# Altium schematic symbol library Bitcoiner_EB_Project_V1I1.SchLib: 70 symbols (part 3 of 3)
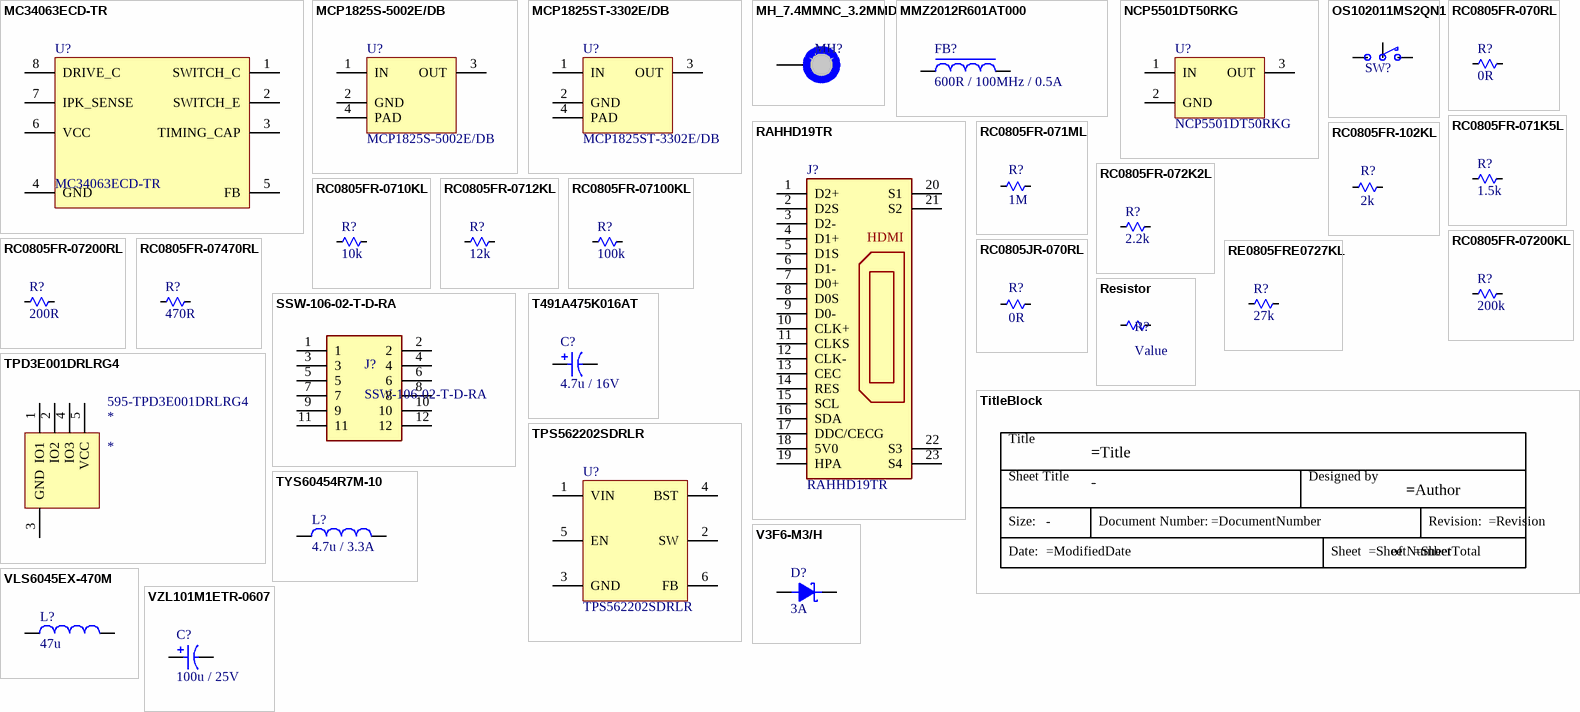
[diagram p3: symbols MC34063ECD-TR to VZL101M1ETR-0607]

## TYS60454R7M-10
designator L?, comment 4.7u / 3.3A
Pwrind, SMT, Shld, Lrated / 6.0X6.0X4.5MM / Uom=ea / Wire Wound Inductive / Fixed Inductor; Manufacturer: Laird Steward; Manufacturer Part Number: TYS60454R7M-10; Tolerance: 20%; Inductance: 4.7uH; Saturation Current: 4.97A; Shielding: Shielded; DC Resistance (DCR): 26mR; Self Resonant Frequency: 24MHz; Test Frequency: 100kHz; Supplier 1: Mouser; RoHS: Yes; Category: Fixed Inductors; Stock 1: 5979; Pricing 1: 1=0.24000, 10=0.22900, 50=0.21200, 100=0.21000, 1000=0.16600, 10000=0.16100 (USD); Mount: Surface Mount; Case/Package: Nonstandard; Min Operating Temperature: -40°C; Max Operating Temperature: 125°C; Packaging: Tape and Reel; Resistor Type: Wirewound; Current Rating: 3.3A; Max DC Current: 3.3A; Length: 0.236inch; Width: 0.236inch; Height - Seated (Max): 0.185inch; Ratings: AEC-Q200; RoHS Compliant: Yes; ComponentLink1URL: http://assets.lairdtech.com/home/brandworld/files/TYS60454R7M-10.pdf?src-supplier=Digi-Key; ComponentLink1Description: http://assets.lairdtech.com/home/brandworld/files/TYS60454R7M-10.pdf?src-supplier=Digi-Key; ComponentLink2URL: http://www.lairdtech.com/WorkArea/linkit.aspx?LinkIdentifier=id&ItemID=2147484897&src-supplier=Avnet; ComponentLink2Description: http://www.lairdtech.com/WorkArea/linkit.aspx?LinkIdentifier=id&ItemID=2147484897&src-supplier=Avnet; Supplier Part Number 1: 875-TYS60454R7M-10
footprint TYS6045
pins: 1, 2

## V3F6-M3/H
designator D?, comment 3A
Diode Schottky 60V 3A 2-Pin DO-219AB T/R; Manufacturer: Vishay Semiconductors; Manufacturer Part Number: V3F6-M3/H; Supplier 1: Mouser; RoHS: Yes; Stock 1: 11750; Pricing 1: 1=0.36000, 10=0.27900, 50=0.27900, 100=0.16900, 1000=0.10700, 10000=0.07500 (USD); RoHS Compliant: Yes; ComponentLink1URL: http://www.vishay.com/docs/87565/v3f6.pdf?src-supplier=Digi-Key; ComponentLink1Description: http://www.vishay.com/docs/87565/v3f6.pdf?src-supplier=Digi-Key; Supplier Part Number 1: 78-V3F6-M3/H
footprint DO-219AB
pins: 1 Cathode, 2 Anode

## VLS6045EX-470M
designator L?, comment 47u
T&R Inductor & EMC; Manufacturer: TDK; Manufacturer Part Number: VLS6045EX-470M; Core Material: Ferrite; Inductance: 47uH; Current Rating: 1.3A; Shielding: Shielded; DC Resistance (DCR): 230mR; Test Frequency: 100kHz; Tolerance: 20%; Supplier 1: Mouser; RoHS: Yes; Category: Fixed Inductors; Stock 1: 5975; Pricing 1: 1=0.46000, 10=0.31700, 50=0.31700, 100=0.27100, 1000=0.24200, 10000=0.16900 (USD); Mount: Surface Mount; Case/Package: Nonstandard; Min Operating Temperature: -40°C; Max Operating Temperature: 105°C; Packaging: Tape and Reel; Resistor Type: Wirewound; Length: 0.236inch; Width: 0.236inch; Height - Seated (Max): 0.177inch; RoHS Compliant: Yes; ComponentLink1URL: https://media.digikey.com/pdf/Data%20Sheets/TDK%20PDFs/VLS-EX_Series_Br.pdf?src-supplier=Digi-Key; ComponentLink1Description: https://media.digikey.com/pdf/Data%20Sheets/TDK%20PDFs/VLS-EX_Series_Br.pdf?src-supplier=Digi-Key; ComponentLink2URL: https://product.tdk.com/info/en/catalog/datasheets/inductor_commercial_power_vls6045ex_en.pdf?src-supplier=Digi-Key; ComponentLink2Description: https://product.tdk.com/info/en/catalog/datasheets/inductor_commercial_power_vls6045ex_en.pdf?src-supplier=Digi-Key; Supplier Part Number 1: 810-VLS6045EX-470M
footprint VLS6045EX
pins: 1, 2

## VZL101M1ETR-0607
designator C?, comment 100u / 25V
RS20-0400M2M2TDAPEHXX.X.; Manufacturer: Lelon; Manufacturer Part Number: VZL101M1ETR-0607; Supplier 1: Mouser; RoHS: No; Stock 1: 1994; Pricing 1: 1=0.21000, 10=0.17300, 50=0.12100, 100=0.10000, 1000=0.08400, 10000=0.07500 (USD); Supplier Part Number 1: 140-VZL101M1ETR-0607
footprint C_ELEC_SMD_SIZE_D
pins: 1, 2